# Altium schematic symbol library CL31B334KBFNNNE.SchLib: 2 symbols
Pins are listed as number, name and electrical type; pins without a type are passive.

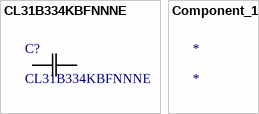
[diagram p0: symbols CL31B334KBFNNNE to Component_1]

## CL31B334KBFNNNE
designator C?
No Description Available; Manufacturer_Name: Samsung; Copyright: Copyright (C) 2025 Ultra Librarian. All rights reserved.; Manufacturer_Part_Number: CL31B334KBFNNNE
footprint CAP_CL31_SAM
pins: 1, 2

## Component_1
designator *